# Altium schematic symbol library DRTR5V0U4S.SchLib: 1 symbol
Pins are listed as number, name and electrical type; pins without a type are passive.

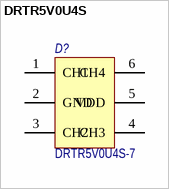
[diagram p0: symbol DRTR5V0U4S]

## DRTR5V0U4S
designator D?  Наименование: DRTR5V0U4S-7  (hidden comment: DRTR5V0U4S)
4 CHANNEL LOW CAPACITANCE TVS DIODE ARRAY; Потребление, Вт: 0.0; Назначение: 4 CHANNEL LOW CAPACITANCE TVS DIODE ARRAY; ComponentLink1Description: DataSheet; ComponentLink1URL: DRTR5V0U4S; Supplier 1: Digi-Key; Supplier Part Number 1: DRTR5V0U4S-7DICT-ND
footprint SOT-363 (SOT-363, 6-Leads, Body 2,00x2,10mm, Pitch 0,65mm, IPC Medium Density)
pins: 1 СH1, 2 GND (power), 3 СH2, 4 СH3, 5 VDD (power), 6 СH4